# Altium footprint library PCB1.PcbLib: 55 footprints (part 4 of 4)
Each footprint in its own frame and in the unit in brackets; x right, y up, seen from the top. Pads: shape width x height; smd on the part's side, far side on the other; paste and mask are expansions set on the pad; w line width, h text height; cw(c..) or ccw(c..) is an arc to the next point about the centre after c.
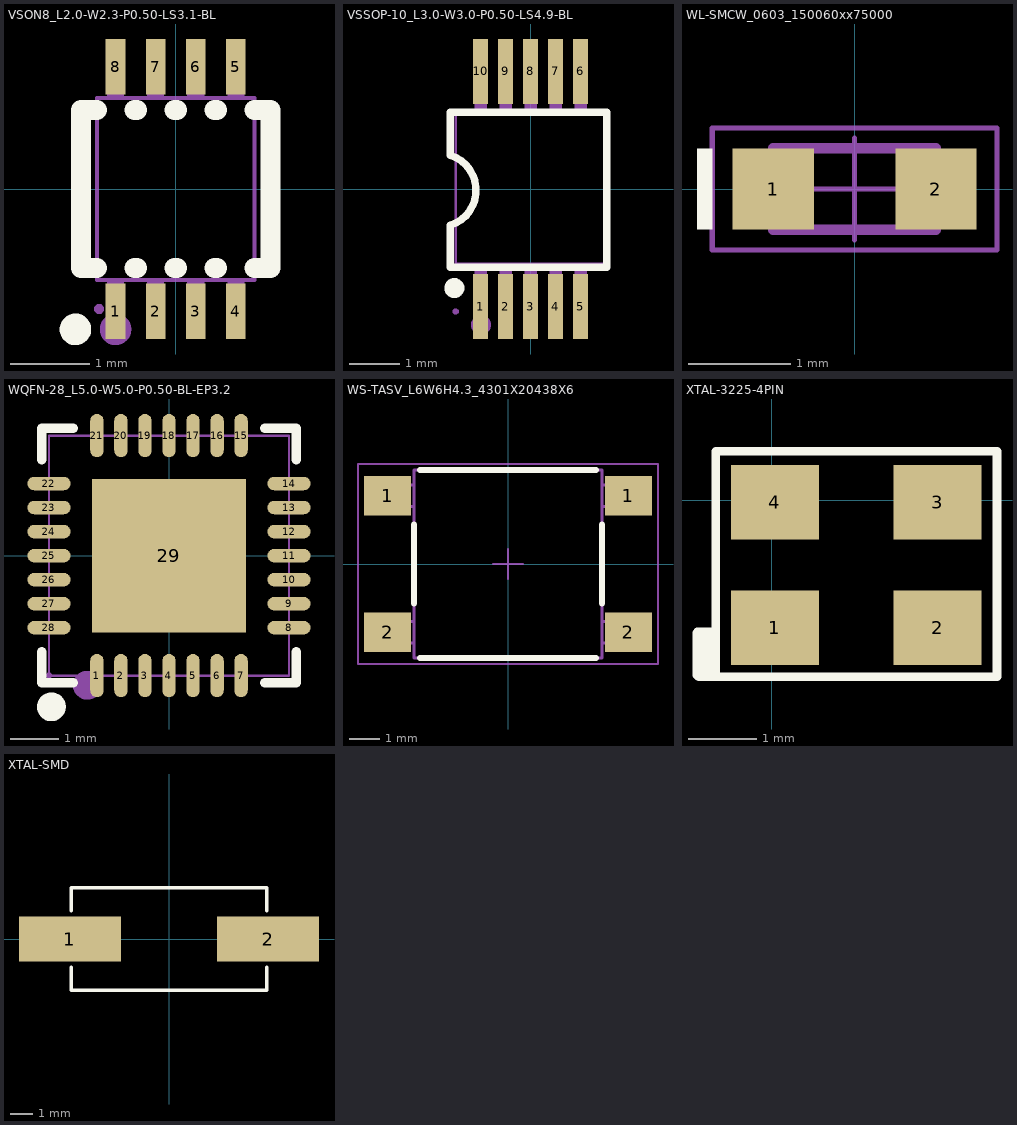
[diagram p3: the footprints below, top view; thin cyan lines are the x and y axes]

## VSON8_L2.0-W2.3-P0.50-LS3.1-BL [mm]
height 2.54
pads (8):
  rect 0.25x0.7 smd: 1(-0.762,-1.55) 2(-0.254,-1.55) 3(0.254,-1.55) 4(0.762,-1.55) 5(0.762,1.55) 6(0.254,1.55) 7(-0.254,1.55) 8(-0.762,1.55)
Top Overlay:
  circle w0.2: c-1.27,-1.778 r0.1
  lines w0.254: -1,-1 -1.2,-1 -1.2,1 -1,1 ; -0.524,-1 -0.492,-1 ; -0.524,1 -0.492,1 ; -0.016,-1 0.016,-1 ; -0.016,1 0.016,1 ; 0.492,-1 0.524,-1 ; 0.492,1 0.524,1 ; 1,-1 1.2,-1 1.2,1 1,1
Bottom Designator:
  circle w0.2: c-0.762,-1.778 r0.1
Mechanical 15:
  region: -0.867,1.14 -0.867,1.285 -0.657,1.285 -0.657,1.14
  region: -0.867,1.275 -0.867,1.55 -0.657,1.55 -0.657,1.275
  region: -0.359,1.14 -0.359,1.285 -0.149,1.285 -0.149,1.14
  region: -0.359,1.275 -0.359,1.55 -0.149,1.55 -0.149,1.275
  region: 0.149,1.14 0.149,1.285 0.359,1.285 0.359,1.14
  region: 0.149,1.275 0.149,1.55 0.359,1.55 0.359,1.275
  region: 0.657,1.14 0.657,1.285 0.867,1.285 0.867,1.14
  region: 0.657,1.275 0.657,1.55 0.867,1.55 0.867,1.275
  region: 0.657,-1.285 0.657,-1.14 0.867,-1.14 0.867,-1.285
  region: 0.657,-1.55 0.657,-1.275 0.867,-1.275 0.867,-1.55
  region: 0.149,-1.285 0.149,-1.14 0.359,-1.14 0.359,-1.285
  region: 0.149,-1.55 0.149,-1.275 0.359,-1.275 0.359,-1.55
  region: -0.359,-1.285 -0.359,-1.14 -0.149,-1.14 -0.149,-1.285
  region: -0.359,-1.55 -0.359,-1.275 -0.149,-1.275 -0.149,-1.55
  region: -0.867,-1.285 -0.867,-1.14 -0.657,-1.14 -0.657,-1.285
  region: -0.867,-1.55 -0.867,-1.275 -0.657,-1.275 -0.657,-1.55
  region: -0.91,-1.52 -0.91,-1.495 -0.945,-1.46 -0.995,-1.46 -1.03,-1.495 -1.03,-1.52 -1.03,-1.545 -0.995,-1.58 -0.945,-1.58 -0.91,-1.545
  lines w0.051: -1,-1.15 1,-1.15 1,1.15 -1,1.15 -1,-1.15

## VSSOP-10_L3.0-W3.0-P0.50-LS4.9-BL [mm]
height 2.54
pads (10):
  rect 0.3x1.3 smd paste+0 mask+0.015: 1(-1,-2.35) 2(-0.5,-2.35) 3(0,-2.35) 4(0.5,-2.35) 5(1,-2.35)
  rect 0.3x1.3 smd: 6(1,2.35) 7(0.5,2.35) 8(0,2.35) 9(-0.5,2.35) 10(-1,2.35)
Top Overlay:
  circle w0.2: c-1.524,-1.981 r0.1
  lines w0.15: -1.603,-1.562 -1.603,-0.724 ccw(c-1.82,-0.026) -1.603,0.673 ; -1.603,0.698 -1.603,1.537 ; -1.578,-1.562 1.522,-1.562 ; -1.578,1.537 1.522,1.537 1.522,-1.564
Bottom Designator:
  circle w0.2: c-0.99,-2.718 r0.1
Mechanical 15:
  region: -1.12,-2.45 -1.12,-1.9 -0.88,-1.9 -0.88,-2.45
  region: -1.12,-1.91 -1.12,-1.49 -0.88,-1.49 -0.88,-1.91
  region: -0.62,-2.45 -0.62,-1.9 -0.38,-1.9 -0.38,-2.45
  region: -0.62,-1.91 -0.62,-1.49 -0.38,-1.49 -0.38,-1.91
  region: -0.12,-2.45 -0.12,-1.9 0.12,-1.9 0.12,-2.45
  region: -0.12,-1.91 -0.12,-1.49 0.12,-1.49 0.12,-1.91
  region: 0.38,-2.45 0.38,-1.9 0.62,-1.9 0.62,-2.45
  region: 0.38,-1.91 0.38,-1.49 0.62,-1.49 0.62,-1.91
  region: 0.88,-2.45 0.88,-1.9 1.12,-1.9 1.12,-2.45
  region: 0.88,-1.91 0.88,-1.49 1.12,-1.49 1.12,-1.91
  region: 0.88,1.9 0.88,2.45 1.12,2.45 1.12,1.9
  region: 0.88,1.49 0.88,1.91 1.12,1.91 1.12,1.49
  region: 0.38,1.9 0.38,2.45 0.62,2.45 0.62,1.9
  region: 0.38,1.49 0.38,1.91 0.62,1.91 0.62,1.49
  region: -0.12,1.9 -0.12,2.45 0.12,2.45 0.12,1.9
  region: -0.12,1.49 -0.12,1.91 0.12,1.91 0.12,1.49
  region: -0.62,1.9 -0.62,2.45 -0.38,2.45 -0.38,1.9
  region: -0.62,1.49 -0.62,1.91 -0.38,1.91 -0.38,1.49
  region: -1.12,1.9 -1.12,2.45 -0.88,2.45 -0.88,1.9
  region: -1.12,1.49 -1.12,1.91 -0.88,1.91 -0.88,1.49
  region: -1.44,-2.45 -1.44,-2.425 -1.475,-2.39 -1.525,-2.39 -1.56,-2.425 -1.56,-2.45 -1.56,-2.475 -1.525,-2.51 -1.475,-2.51 -1.44,-2.475
  lines w0.051: -1.5,-1.5 -1.5,1.5 1.5,1.5 1.5,-1.5 -1.5,-1.5

## WL-SMCW_0603_150060xx75000 [mm] "SMD Mono-color Chip LED, body 1.6x0.8mm"
height 0.7
pads (2):
  rect 0.8x0.8 smd: 1(-0.8,0) 2(0.8,0)
Top Overlay:
  rectangle: -1.55,-0.4 -1.4,0.4
Top Courtyard:
  lines w0.05: -0.5,0 0.5,0 ; 0,-0.5 0,0.5 ; -1.4,-0.6 -1.4,0.6 1.4,0.6 1.4,-0.6 -1.4,-0.6
Top Designator:
  text ".Designator" at -2.499,-0.167 h0.5
Top Component Outline:
  rectangle: -0.8,-0.4 -0.5,0.4
  lines w0.1: -0.8,-0.4 -0.8,0.4 0.8,0.4 0.8,-0.4 -0.8,-0.4
3D body "150060xxx.stp": height 0.7, standoff 0, extent -0.8,-0.4 0.8,0.4

## WQFN-28_L5.0-W5.0-P0.50-BL-EP3.2 [mm]
height 2.54
pads (29):
  oval 0.28x0.9 smd paste-100 mask+0.051: 1(-1.501,-2.5) 2(-1.001,-2.5) 3(-0.501,-2.5) 4(0,-2.5) 5(0.5,-2.5) 6(1.001,-2.5) 7(1.501,-2.5) 15(1.501,2.5) 16(1.001,2.5) 17(0.5,2.5) 18(0,2.5) 19(-0.501,2.5) 20(-1.001,2.5) 21(-1.501,2.5)
  oval 0.9x0.28 smd paste-100 mask+0.051: 8(2.5,-1.501) 9(2.5,-1.001) 10(2.5,-0.501) 11(2.5,0) 12(2.5,0.5) 13(2.5,1.001) 14(2.5,1.501) 22(-2.5,1.501) 23(-2.5,1.001) 24(-2.5,0.5) 25(-2.5,0) 26(-2.5,-0.501) 27(-2.5,-1.001) 28(-2.5,-1.501)
  rect 3.2x3.2 smd paste-100 mask+0.051: 29(0,0)
Top Overlay:
  lines w0.2: -2.65,-2 -2.65,-2.65 -2,-2.65 ; -2.65,2 -2.65,2.65 -2,2.65 ; 2,-2.65 2.65,-2.65 2.65,-2 ; 2,2.65 2.65,2.65 2.65,2
  lines w0.3: -2.451,-3 ccw(c-2.45,-3.15) -2.449,-3
Top Paste:
  drawing of 29 lines, arcs and shapes, not listed
Bottom Designator:
  circle w0.3: c-1.7,-2.7 r0.15
Mechanical 15:
  drawing of 34 lines, arcs and shapes, not listed

## WS-TASV_L6W6H4.3_4301X20438X6 [mm] "SMD Tact Switch, body 6x6mm"
height 4.3
pads (4):
  rect 1.55x1.3 smd: 1(-3.975,2.25) 1(3.975,2.25) 2(-3.975,-2.25) 2(3.975,-2.25)
Top Overlay:
  lines w0.2: -3.1,-1.3 -3.1,1.3 ; -2.9,-3.1 2.9,-3.1 ; -2.9,3.1 2.9,3.1 ; 3.1,-1.3 3.1,1.3
Top 3D Body:
  lines w0.1: -3.1,-2.6 -4.5,-2.6 -4.5,-1.9 -3.1,-1.9 ; -3.1,1.9 -4.5,1.9 -4.5,2.6 -3.1,2.6 ; 3.1,-2.6 4.5,-2.6 4.5,-1.9 3.1,-1.9 ; 3.1,1.9 4.5,1.9 4.5,2.6 3.1,2.6 ; -3.1,-3.1 -3.1,3.1 3.1,3.1 3.1,-3.1 -3.1,-3.1
Top Courtyard:
  lines w0.05: -0.5,0 0.5,0 ; 0,-0.5 0,0.5 ; -4.95,-3.3 -4.95,3.3 4.95,3.3 4.95,-3.3 -4.95,-3.3
Top Designator:
  text ".Designator" at -4.998,-0.333 h1
Top Component Outline:
  lines w0.1: -3.1,-2.6 -4.5,-2.6 -4.5,-1.9 -3.1,-1.9 ; -3.1,1.9 -4.5,1.9 -4.5,2.6 -3.1,2.6 ; 3.1,-2.6 4.5,-2.6 4.5,-1.9 3.1,-1.9 ; 3.1,1.9 4.5,1.9 4.5,2.6 3.1,2.6 ; -3.1,-3.1 3.1,-3.1 3.1,3.1 -3.1,3.1 -3.1,-3.1
3D body "4301x20438x6.stp": height 4.3, standoff 0, extent -4.5,-3.1 4.5,3.1

## XTAL-3225-4PIN [mm]
height 2.54
pads (4):
  rect 1.3x1.1 smd: 1(0.05,-1.875) 2(2.45,-1.875) 3(2.45,-0.025) 4(0.05,-0.025)
Top Overlay:
  lines w0.1: -1.1,-2.6 -1.1,-2.075 -1.1,-1.925 -1.075,-1.925 -1.025,-1.925 -0.825,-1.925
  lines w0.127: -0.975,-2 -1.025,-2.05 -1.025,-2.475 -1.05,-2.5 -1.025,-2.525 -0.95,-2.525 -0.9,-2.525 -0.9,-1.95 -1.1,-1.95 -1.1,-2.575 -1.075,-2.6 -0.35,-2.6 ; -0.825,-2.6 3.325,-2.6 ; -0.825,-2.6 -0.825,-2.6 ; -0.825,-2.6 -0.825,0.725 2.775,0.725 3.325,0.725 3.325,-2.225 3.325,-2.6 ; 3.325,-2.6 3.325,-2.6
3D body "User Library-tsx-3225-1.step": height 0.6, standoff 0, extent -0.35,-2.2 2.85,0.3

## XTAL-SMD [mil]
height 393.7
pads (2):
  rect 180x80 smd: 1(-175,0) 2(175,0)
Top Overlay:
  lines w6: -172.5,-50 -172.5,-90.75 172.5,-90.75 172.5,-50 ; -172.5,50 -172.5,90.75 172.5,90.75 172.5,50
3D body "User Library-hc49_cystal.STEP": height 157.48, standoff 0, extent -264.76,-96.45 262.8,96.46